# Altium footprint library 19C2830103-JOB.PcbLib: 69 footprints (part 1 of 6)
Each footprint in its own frame and in the unit in brackets; x right, y up, seen from the top. Pads: shape width x height; smd on the part's side, far side on the other; paste and mask are expansions set on the pad; w line width, h text height; cw(c..) or ccw(c..) is an arc to the next point about the centre after c.
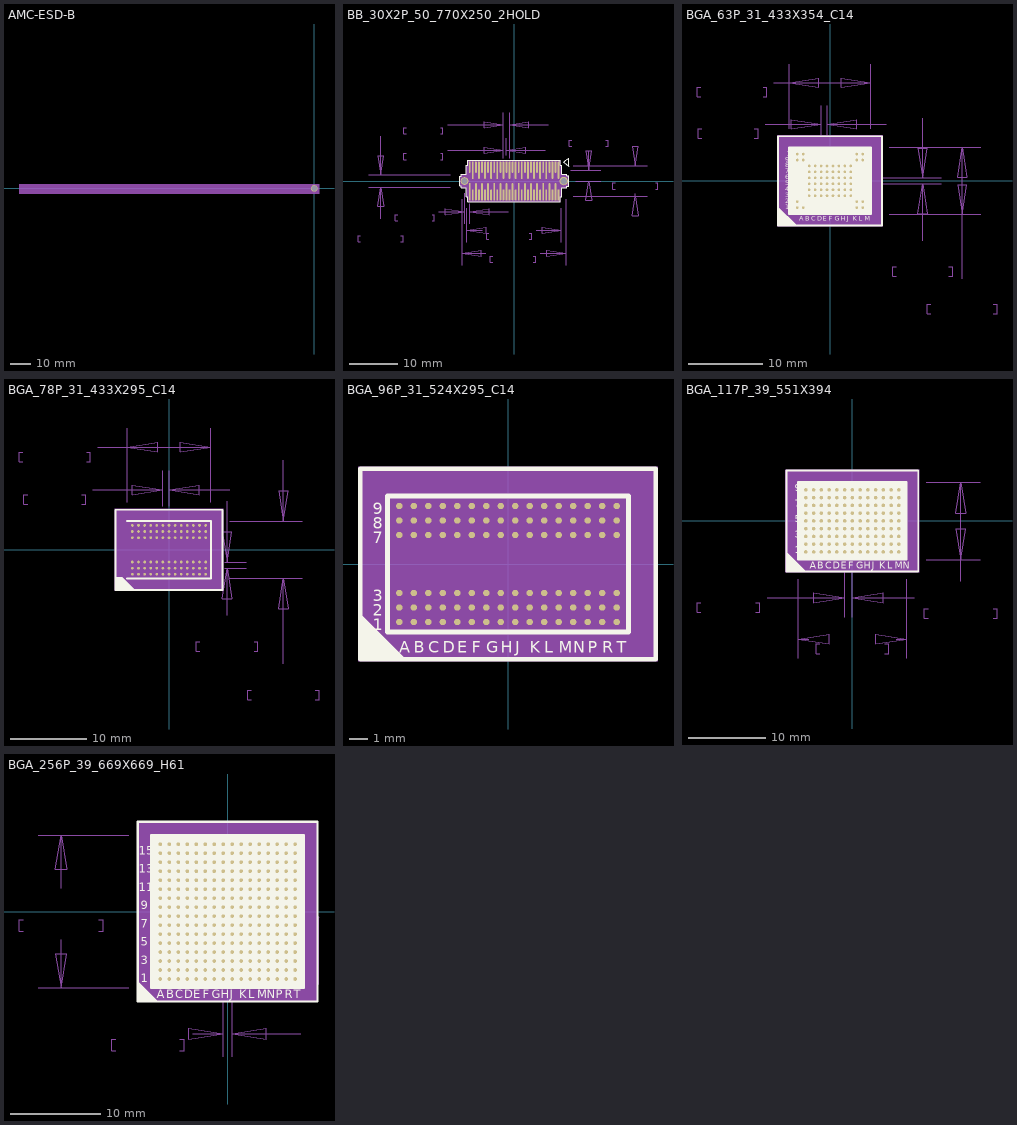
[diagram p0: the footprints below, top view; thin cyan lines are the x and y axes]

## AMC-ESD-B [mil] "AMC-ESD-B"
pads (4):
  oct 1x1 smd far side: 1(0,-11.81) 2(-4940.94,61.02) 3(-5452.76,61.02)
  round 126 hole 106: 4(0,0)
Mechanical 15:
  text "4" at -30,0 h25
  text "1" at -30,-11.81 h25
  text "2" at -4970.94,61.02 h25
  text "3" at -5482.76,61.02 h25
Mechanical 16:
  region: -5649.61,-104.33 92.03,-104.33 92.03,80.71 -5649.61,80.71
3D body: height 150, standoff 0, extent -5649.61,-104.33 92.03,80.71

## BB_30X2P_50_770X250_2HOLD [mil] "BB_30X2P_50_770X250_2HOLD"
pads (62):
  oval 15x93 smd: A1(337.6,113.58) A2(287.6,113.58) A3(237.6,113.58) A4(187.6,113.58) A5(137.6,113.58) A6(87.6,113.58) A7(37.6,113.58) A8(-12.4,113.58) A9(-62.4,113.58) A10(-112.4,113.58) A11(-162.4,113.58) A12(-212.4,113.58) A13(-262.4,113.58) A14(-312.4,113.58) A15(-362.4,113.58) D1(362.6,-113.58) D2(312.6,-113.58) D3(262.6,-113.58) D4(212.6,-113.58) D5(162.6,-113.58) D6(112.6,-113.58) D7(62.6,-113.58) D8(12.6,-113.58) D9(-37.4,-113.58) D10(-87.4,-113.58) D11(-137.4,-113.58) D12(-187.4,-113.58) D13(-237.4,-113.58) D14(-287.4,-113.58) D15(-337.4,-113.58)
  oval 15x143 smd: B1(362.6,88.58) B2(312.6,88.58) B3(262.6,88.58) B4(212.6,88.58) B5(162.6,88.58) B6(112.6,88.58) B7(62.6,88.58) B8(12.6,88.58) B9(-37.4,88.58) B10(-87.4,88.58) B11(-137.4,88.58) B12(-187.4,88.58) B13(-237.4,88.58) B14(-287.4,88.58) B15(-337.4,88.58) C1(337.6,-88.58) C2(287.6,-88.58) C3(237.6,-88.58) C4(187.6,-88.58) C5(137.6,-88.58) C6(87.6,-88.58) C7(37.6,-88.58) C8(-12.4,-88.58) C9(-62.4,-88.58) C10(-112.4,-88.58) C11(-162.4,-88.58) C12(-212.4,-88.58) C13(-262.4,-88.58) C14(-312.4,-88.58) C15(-362.4,-88.58)
  round 63 / inner round 59 / far side round 63 hole 47: H1(-404.92,0)
  round 69 / inner round 65 / far side round 69 hole 53: H2(404.92,0)
Top Overlay:
  lines w10: 408,151 404,154 ; 408.54,157.3 404,154 ; 404,154 422,168 446,186 446,124 446,120 404,154 ; -444.42,-39.5 -430,-39.5 -430,-55 -390.04,-55 -390.04,-130 -378.1,-130 -378.1,-168.08 377.9,-168.08 377.9,-130 390.04,-130 390.04,-55 430,-55 430,-42.5 447.42,-42.5 447.42,42.5 430,42.5 430,55 390.04,55 390.04,130 377.9,130 377.9,168.08 -378.1,168.08 -378.1,130 -390.04,130 -390.04,55 -430,55 -430,39.5 -444.42,39.5 -444.42,-39.5
  text ".Designator" at -457,-82.4 h36
Mechanical 15:
  text "B12" at -187.4,122.18 h28
  text "A15" at -362.4,147.18 h28
  text "A8" at -12.4,135.98 h28
  text "A4" at 187.6,135.98 h28
  text "D4" at 212.6,-91.18 h28
  text "A2" at 287.6,135.98 h28
  text "D2" at 312.6,-91.18 h28
  text "A5" at 137.6,135.98 h28
  text "D5" at 162.6,-91.18 h28
  text "A6" at 87.6,135.98 h28
  text "D6" at 112.6,-91.18 h28
  text "A7" at 37.6,135.98 h28
  text "D7" at 62.6,-91.18 h28
  text "A9" at -62.4,135.98 h28
  text "D9" at -37.4,-91.18 h28
  text "A13" at -262.4,147.18 h28
  text "D13" at -237.4,-79.98 h28
  text "A11" at -162.4,147.18 h28
  text "D11" at -137.4,-79.98 h28
  text "D14" at -287.4,-79.98 h28
  text "A14" at -312.4,147.18 h28
  text "C15" at -362.4,-54.98 h28
  text "D12" at -187.4,-79.98 h28
  text "A12" at -212.4,147.18 h28
  text "D3" at 262.6,-91.18 h28
  text "A3" at 237.6,135.98 h28
  text "C1" at 337.6,-66.18 h28
  text "B1" at 362.6,110.98 h28
  text "D10" at -87.4,-79.98 h28
  text "A10" at -112.4,147.18 h28
  text "D8" at 12.6,-91.18 h28
  text "B15" at -337.4,122.18 h28
  text "D15" at -337.4,-79.98 h28
  text "A1" at 337.6,135.98 h28
  text "B8" at 12.6,110.98 h28
  text "C3" at 237.6,-66.18 h28
  text "B2" at 312.6,110.98 h28
  text "B7" at 62.6,110.98 h28
  text "B4" at 212.6,110.98 h28
  text "C8" at -12.4,-66.18 h28
  text "C2" at 287.6,-66.18 h28
  text "B3" at 262.6,110.98 h28
  text "C4" at 187.6,-66.18 h28
  text "C5" at 137.6,-66.18 h28
  text "B5" at 162.6,110.98 h28
  text "C6" at 87.6,-66.18 h28
  text "B6" at 112.6,110.98 h28
  text "C7" at 37.6,-66.18 h28
  text "C9" at -62.4,-66.18 h28
  text "B9" at -37.4,110.98 h28
  text "C10" at -112.4,-54.98 h28
  text "B10" at -87.4,122.18 h28
  text "C11" at -162.4,-54.98 h28
  text "B11" at -137.4,122.18 h28
  text "C12" at -212.4,-54.98 h28
  text "C13" at -262.4,-54.98 h28
  text "B13" at -237.4,122.18 h28
  text "C14" at -312.4,-54.98 h28
  text "B14" at -287.4,122.18 h28
  text "H1" at -404.92,22.4 h28
  text "H2" at 404.92,22.4 h28
  text "D1" at 362.6,-91.18 h28
Mechanical 16:
  drawing of 145 lines, arcs and shapes, not listed
Mechanical 17:
  text "2.25" at 514.5,385 h36
  text "88.58" at 489,285 h36
  text "1.08" at -905.5,-225 h36
  text "42.52" at -931,-325 h36
  text "0.635" at -861,275 h36
  text "25.00" at -861,175 h36
  text "1.27" at -835.5,485 h36
  text "50.00" at -861,385 h36
  text "19.56" at -161,-375 h36
  text "770.08" at -186.5,-475 h36
  text "6.35" at 894.5,35 h36
  text "250.00" at 843.5,-65 h36
  text "21.59" at -131,-565 h36
  text "850.00" at -156.5,-665 h36
  text "2.54" at -1185.5,-395 h36
  text "100.00" at -1236.5,-495 h36
3D body: height 150, standoff 0, extent -425,-125 425,125

## BGA_63P_31_433X354_C14 [mil] "BGA_63P_31_433X354_C14"
pads (63):
  round 14 smd: A1(-173.23,-141.73) A2(-173.23,-110.24) A9(-173.23,110.24) A10(-173.23,141.73) B1(-141.73,-141.73) B9(-141.73,110.24) B10(-141.73,141.73) C3(-110.24,-78.74) C4(-110.24,-47.24) C5(-110.24,-15.75) C6(-110.24,15.75) C7(-110.24,47.24) C8(-110.24,78.74) D3(-78.74,-78.74) D4(-78.74,-47.24) D5(-78.74,-15.75) D6(-78.74,15.75) D7(-78.74,47.24) D8(-78.74,78.74) E3(-47.24,-78.74) E4(-47.24,-47.24) E5(-47.24,-15.75) E6(-47.24,15.75) E7(-47.24,47.24) E8(-47.24,78.74) F3(-15.75,-78.74) F4(-15.75,-47.24) F5(-15.75,-15.75) F6(-15.75,15.75) F7(-15.75,47.24) F8(-15.75,78.74) G3(15.75,-78.74) G4(15.75,-47.24) G5(15.75,-15.75) G6(15.75,15.75) G7(15.75,47.24) G8(15.75,78.74) H3(47.24,-78.74) H4(47.24,-47.24) H5(47.24,-15.75) H6(47.24,15.75) H7(47.24,47.24) H8(47.24,78.74) J3(78.74,-78.74) J4(78.74,-47.24) J5(78.74,-15.75) J6(78.74,15.75) J7(78.74,47.24) J8(78.74,78.74) K3(110.24,-78.74) K4(110.24,-47.24) K5(110.24,-15.75) K6(110.24,15.75) K7(110.24,47.24) K8(110.24,78.74) L1(141.73,-141.73) L2(141.73,-110.24) L9(141.73,110.24) L10(141.73,141.73) M1(173.23,-141.73) M2(173.23,-110.24) M9(173.23,110.24) M10(173.23,141.73)
Top Overlay:
  drawing of 73 lines, arcs and shapes, not listed
  text "A" at -163.23,-212.6 h25
  text "1" at -238.03,-149.61 h25
  text "B" at -131.73,-212.6 h25
  text "C" at -100.24,-212.6 h25
  text "D" at -68.74,-212.6 h25
  text "E" at -37.24,-212.6 h25
  text "F" at -5.75,-212.6 h25
  text "G" at 25.75,-212.6 h25
  text "H" at 57.24,-212.6 h25
  text "J" at 88.74,-212.6 h25
  text "K" at 120.24,-212.6 h25
  text "L" at 151.73,-212.6 h25
  text "M" at 183.23,-212.6 h25
  text "2" at -238.03,-118.11 h25
  text "3" at -238.03,-86.61 h25
  text "4" at -238.03,-55.12 h25
  text "5" at -238.03,-23.62 h25
  text "6" at -238.03,7.87 h25
  text "7" at -238.03,39.37 h25
  text "8" at -238.03,70.87 h25
  text "9" at -238.03,102.36 h25
  text "10" at -228.03,133.86 h25
  text ".Designator" at 87,-248 h36
Mechanical 1:
  lines w1: -275,-160 -275,205 -240,240 -163.71,240 -158.71,235 190,235 216.54,208.46 216.54,177.17 216.54,-177.17 -216.54,-177.17 -216.54,-175 -221.54,-170 -265,-170 -275,-160
Mechanical 15:
  text "A1" at -153.23,-141.73 h25
  text "L9" at 161.73,110.24 h25
  text "L10" at 171.73,141.73 h25
  text "M1" at 193.23,-141.73 h25
  text "M2" at 193.23,-110.24 h25
  text "M9" at 193.23,110.24 h25
  text "M10" at 203.23,141.73 h25
  text "A2" at -153.23,-110.24 h25
  text "A9" at -153.23,110.24 h25
  text "A10" at -143.23,141.73 h25
  text "B1" at -121.73,-141.73 h25
  text "B9" at -121.73,110.24 h25
  text "B10" at -111.73,141.73 h25
  text "L1" at 161.73,-141.73 h25
  text "L2" at 161.73,-110.24 h25
  text "D3" at -58.74,-78.74 h25
  text "E8" at -27.24,78.74 h25
  text "F3" at 4.25,-78.74 h25
  text "F4" at 4.25,-47.24 h25
  text "F5" at 4.25,-15.75 h25
  text "F6" at 4.25,15.75 h25
  text "F7" at 4.25,47.24 h25
  text "F8" at 4.25,78.74 h25
  text "G3" at 35.75,-78.74 h25
  text "G4" at 35.75,-47.24 h25
  text "G5" at 35.75,-15.75 h25
  text "D6" at -58.74,15.75 h25
  text "G6" at 35.75,15.75 h25
  text "G7" at 35.75,47.24 h25
  text "G8" at 35.75,78.74 h25
  text "H3" at 67.24,-78.74 h25
  text "H5" at 67.24,-15.75 h25
  text "H6" at 67.24,15.75 h25
  text "H7" at 67.24,47.24 h25
  text "J3" at 98.74,-78.74 h25
  text "J5" at 98.74,-15.75 h25
  text "D7" at -58.74,47.24 h25
  text "D8" at -58.74,78.74 h25
  text "E3" at -27.24,-78.74 h25
  text "E4" at -27.24,-47.24 h25
  text "E5" at -27.24,-15.75 h25
  text "E6" at -27.24,15.75 h25
  text "E7" at -27.24,47.24 h25
  text "H8" at 67.24,78.74 h25
  text "J6" at 98.74,15.75 h25
  text "C3" at -90.24,-78.74 h25
  text "K8" at 130.24,78.74 h25
  text "K3" at 130.24,-78.74 h25
  text "C5" at -90.24,-15.75 h25
  text "C7" at -90.24,47.24 h25
  text "C8" at -90.24,78.74 h25
  text "D4" at -58.74,-47.24 h25
  text "J8" at 98.74,78.74 h25
  text "K7" at 130.24,47.24 h25
  text "J7" at 98.74,47.24 h25
  text "K6" at 130.24,15.75 h25
  text "K5" at 130.24,-15.75 h25
  text "K4" at 130.24,-47.24 h25
  text "J4" at 98.74,-47.24 h25
  text "H4" at 67.24,-47.24 h25
  text "C6" at -90.24,15.75 h25
  text "D5" at -58.74,-15.75 h25
  text "C4" at -90.24,-47.24 h25
Mechanical 16:
  pour cut-out: -280.59,-241.22 280.59,-241.22 280.59,241.22 -280.59,241.22
  region: -275.59,-236.22 275.59,-236.22 275.59,236.22 -275.59,236.22
  lines w1: -685.5,445 -704.5,445 -704.5,495 -685.5,495 ; -680,225 -699,225 -699,275 -680,275 ; -400,225 -381,225 -381,275 -400,275 ; -354.5,445 -335.5,445 -335.5,495 -354.5,495 ; -343.5,300 -47.24,300 ; -298,520 -216.54,520 ; -216.54,275.59 -216.54,618.43 ; -47.24,177.17 -47.24,398.43 ; -15.75,177.17 -15.75,398.43 ; 208.66,-15.75 588.43,-15.75 ; 208.66,15.75 588.43,15.75 ; 216.54,275.59 216.54,618.43 ; 299.21,300 -15.75,300 ; 314.96,-177.17 798.43,-177.17 ; 314.96,177.17 798.43,177.17 ; 350,-505 331,-505 331,-455 350,-455 ; 490,-317.5 490,-15.75 ; 490,330.71 490,15.75 ; 534.5,-705 515.5,-705 515.5,-655 534.5,-655 ; 630,-505 649,-505 649,-455 630,-455 ; 700,-517.5 700,-177.17 ; 865.5,-705 884.5,-705 884.5,-655 865.5,-655 ; -216.54,520 -59.06,544.61 -59.06,495.39 -216.54,520 ; -216.54,520 216.54,520 ; -47.24,300 -204.72,275.39 -204.72,324.61 -47.24,300 ; -15.75,300 141.73,324.61 141.73,275.39 -15.75,300 ; 216.54,520 59.06,495.39 59.06,544.61 216.54,520 ; 490,-15.75 514.61,-173.23 465.39,-173.23 490,-15.75 ; 490,15.75 465.39,173.23 514.61,173.23 490,15.75 ; 700,-177.17 675.39,-19.69 724.61,-19.69 700,-177.17 ; 700,-177.17 700,177.17 ; 700,177.17 724.61,19.69 675.39,19.69 700,177.17 ; -275.59,-236.22 275.59,-236.22 275.59,236.22 -275.59,236.22 -275.59,-236.22
Mechanical 17:
  text "0.8" at -610,325 h50
  text "31.50" at -661,225 h50
  text "11" at -564.5,545 h50
  text "433.07" at -666.5,445 h50
  text "0.8" at 420,-405 h50
  text "31.50" at 369,-505 h50
  text "9" at 681,-605 h50
  text "354.33" at 553.5,-705 h50
3D body: height 150, standoff 0, extent -275.59,-236.22 275.59,236.22

## BGA_78P_31_433X295_C14 [mil] "BGA_78P_31_433X295_C14"
pads (78):
  round 14 smd: A1(-188.98,-125.98) A2(-188.98,-94.49) A3(-188.98,-62.99) A7(-188.98,62.99) A8(-188.98,94.49) A9(-188.98,125.98) B1(-157.48,-125.98) B2(-157.48,-94.49) B3(-157.48,-62.99) B7(-157.48,62.99) B8(-157.48,94.49) B9(-157.48,125.98) C1(-125.98,-125.98) C2(-125.98,-94.49) C3(-125.98,-62.99) C7(-125.98,62.99) C8(-125.98,94.49) C9(-125.98,125.98) D1(-94.49,-125.98) D2(-94.49,-94.49) D3(-94.49,-62.99) D7(-94.49,62.99) D8(-94.49,94.49) D9(-94.49,125.98) E1(-62.99,-125.98) E2(-62.99,-94.49) E3(-62.99,-62.99) E7(-62.99,62.99) E8(-62.99,94.49) E9(-62.99,125.98) F1(-31.5,-125.98) F2(-31.5,-94.49) F3(-31.5,-62.99) F7(-31.5,62.99) F8(-31.5,94.49) F9(-31.5,125.98) G1(0,-125.98) G2(0,-94.49) G3(0,-62.99) G7(0,62.99) G8(0,94.49) G9(0,125.98) H1(31.5,-125.98) H2(31.5,-94.49) H3(31.5,-62.99) H7(31.5,62.99) H8(31.5,94.49) H9(31.5,125.98) J1(62.99,-125.98) J2(62.99,-94.49) J3(62.99,-62.99) J7(62.99,62.99) J8(62.99,94.49) J9(62.99,125.98) K1(94.49,-125.98) K2(94.49,-94.49) K3(94.49,-62.99) K7(94.49,62.99) K8(94.49,94.49) K9(94.49,125.98) L1(125.98,-125.98) L2(125.98,-94.49) L3(125.98,-62.99) L7(125.98,62.99) L8(125.98,94.49) L9(125.98,125.98) M1(157.48,-125.98) M2(157.48,-94.49) M3(157.48,-62.99) M7(157.48,62.99) M8(157.48,94.49) M9(157.48,125.98) N1(188.98,-125.98) N2(188.98,-94.49) N3(188.98,-62.99) N7(188.98,62.99) N8(188.98,94.49) N9(188.98,125.98)
Top Overlay:
  pour cut-out: -275.59,-206.69 -177.17,-206.69 -241.05,-142.8 -275.59,-142.8
  lines w10: -216.54,-147.64 216.54,-147.64 216.54,147.64 -216.54,147.64 ; -275.59,-206.69 -275.59,206.69 275.59,206.69 275.59,-206.69 -275.59,-206.69
  text ".Designator" at -394.25,81.4 h36
Mechanical 15:
  text "A3" at -188.98,-82.99 h25
  text "F1" at -31.5,-145.98 h25
  text "F9" at -31.5,105.98 h25
  text "H1" at 31.5,-145.98 h25
  text "H9" at 31.5,105.98 h25
  text "K3" at 94.49,-82.99 h25
  text "L7" at 125.98,42.99 h25
  text "H7" at 31.5,42.99 h25
  text "M7" at 157.48,42.99 h25
  text "K7" at 94.49,42.99 h25
  text "N3" at 188.98,-82.99 h25
  text "N7" at 188.98,42.99 h25
  text "J7" at 62.99,42.99 h25
  text "L3" at 125.98,-82.99 h25
  text "K2" at 94.49,-114.49 h25
  text "L8" at 125.98,74.49 h25
  text "L2" at 125.98,-114.49 h25
  text "M8" at 157.48,74.49 h25
  text "M2" at 157.48,-114.49 h25
  text "N8" at 188.98,74.49 h25
  text "M3" at 157.48,-82.99 h25
  text "J2" at 62.99,-114.49 h25
  text "K8" at 94.49,74.49 h25
  text "J3" at 62.99,-82.99 h25
  text "G3" at 0,-82.99 h25
  text "B3" at -157.48,-82.99 h25
  text "C7" at -125.98,42.99 h25
  text "C2" at -125.98,-114.49 h25
  text "C8" at -125.98,74.49 h25
  text "E3" at -62.99,-82.99 h25
  text "E8" at -62.99,74.49 h25
  text "D2" at -94.49,-114.49 h25
  text "E7" at -62.99,42.99 h25
  text "G9" at 0,105.98 h25
  text "G7" at 0,42.99 h25
  text "F7" at -31.5,42.99 h25
  text "H2" at 31.5,-114.49 h25
  text "B7" at -157.48,42.99 h25
  text "D3" at -94.49,-82.99 h25
  text "C3" at -125.98,-82.99 h25
  text "N2" at 188.98,-114.49 h25
  text "G1" at 0,-145.98 h25
  text "F3" at -31.5,-82.99 h25
  text "H3" at 31.5,-82.99 h25
  text "J8" at 62.99,74.49 h25
  text "E1" at -62.99,-145.98 h25
  text "N9" at 188.98,105.98 h25
  text "D9" at -94.49,105.98 h25
  text "D8" at -94.49,74.49 h25
  text "F8" at -31.5,74.49 h25
  text "J9" at 62.99,105.98 h25
  text "L9" at 125.98,105.98 h25
  text "A8" at -188.98,74.49 h25
  text "D1" at -94.49,-145.98 h25
  text "L1" at 125.98,-145.98 h25
  text "J1" at 62.99,-145.98 h25
  text "F2" at -31.5,-114.49 h25
  text "A1" at -188.98,-145.98 h25
  text "B1" at -157.48,-145.98 h25
  text "N1" at 188.98,-145.98 h25
  text "B2" at -157.48,-114.49 h25
  text "B8" at -157.48,74.49 h25
  text "C9" at -125.98,105.98 h25
  text "G8" at 0,74.49 h25
  text "A9" at -188.98,105.98 h25
  text "M9" at 157.48,105.98 h25
  text "K9" at 94.49,105.98 h25
  text "D7" at -94.49,42.99 h25
  text "A2" at -188.98,-114.49 h25
  text "C1" at -125.98,-145.98 h25
  text "K1" at 94.49,-145.98 h25
  text "M1" at 157.48,-145.98 h25
  text "E2" at -62.99,-114.49 h25
  text "G2" at 0,-114.49 h25
  text "B9" at -157.48,105.98 h25
  text "E9" at -62.99,105.98 h25
  text "H8" at 31.5,74.49 h25
  text "A7" at -188.98,42.99 h25
Mechanical 16:
  region: -275.59,-206.69 275.59,-206.69 275.59,206.69 -275.59,206.69
  pour cut-out: -280.59,-211.69 280.59,-211.69 280.59,211.69 -280.59,211.69
  lines w1: -755.5,455 -774.5,455 -774.5,505 -755.5,505 ; -730,235 -749,235 -749,285 -730,285 ; -450,235 -431,235 -431,285 -450,285 ; -424.5,455 -405.5,455 -405.5,505 -424.5,505 ; -393.5,310 -31.5,310 ; -368,530 -216.54,530 ; -216.54,246.06 -216.54,628.43 ; -31.5,224.41 -31.5,408.43 ; 0,224.41 0,408.43 ; 160,-525 141,-525 141,-475 160,-475 ; 216.54,246.06 216.54,628.43 ; 287.4,-94.49 398.43,-94.49 ; 287.4,-62.99 398.43,-62.99 ; 300,-337.5 300,-94.49 ; 300,251.97 300,-62.99 ; 314.96,-147.64 688.43,-147.64 ; 314.96,147.64 688.43,147.64 ; 314.96,310 0,310 ; 424.5,-775 405.5,-775 405.5,-725 424.5,-725 ; 440,-525 459,-525 459,-475 440,-475 ; 590,-587.5 590,-147.64 ; 590,462.6 590,147.64 ; 755.5,-775 774.5,-775 774.5,-725 755.5,-725 ; -216.54,530 216.54,530 ; -216.54,530 -59.06,505.39 -59.06,554.61 -216.54,530 ; -31.5,310 -188.98,334.61 -188.98,285.39 -31.5,310 ; 0,310 157.48,285.39 157.48,334.61 0,310 ; 216.54,530 59.06,554.61 59.06,505.39 216.54,530 ; 300,-94.49 275.39,-251.97 324.61,-251.97 300,-94.49 ; 300,-62.99 324.61,94.49 275.39,94.49 300,-62.99 ; 590,-147.64 565.39,-305.12 614.61,-305.12 590,-147.64 ; 590,147.64 614.61,305.12 565.39,305.12 590,147.64 ; -275.59,-206.69 -275.59,206.69 275.59,206.69 275.59,-206.69 -275.59,-206.69
Mechanical 17:
  text "295.28" at 443.5,-775 h50
  text "7.5" at 520,-675 h50
  text "31.50" at 179,-525 h50
  text "0.8" at 230,-425 h50
  text "433.07" at -736.5,455 h50
  text "11" at -634.5,555 h50
  text "31.50" at -711,235 h50
  text "0.8" at -660,335 h50
3D body: height 150, standoff 0, extent -275.59,-206.69 275.59,206.69

## BGA_96P_31_524X295_C14 [mil] "BGA_96P_31_524X295_C14"
pads (96):
  round 14 smd: A1(-236.22,-125.98) A2(-236.22,-94.49) A3(-236.22,-62.99) A7(-236.22,62.99) A8(-236.22,94.49) A9(-236.22,125.98) B1(-204.72,-125.98) B2(-204.72,-94.49) B3(-204.72,-62.99) B7(-204.72,62.99) B8(-204.72,94.49) B9(-204.72,125.98) C1(-173.23,-125.98) C2(-173.23,-94.49) C3(-173.23,-62.99) C7(-173.23,62.99) C8(-173.23,94.49) C9(-173.23,125.98) D1(-141.73,-125.98) D2(-141.73,-94.49) D3(-141.73,-62.99) D7(-141.73,62.99) D8(-141.73,94.49) D9(-141.73,125.98) E1(-110.24,-125.98) E2(-110.24,-94.49) E3(-110.24,-62.99) E7(-110.24,62.99) E8(-110.24,94.49) E9(-110.24,125.98) F1(-78.74,-125.98) F2(-78.74,-94.49) F3(-78.74,-62.99) F7(-78.74,62.99) F8(-78.74,94.49) F9(-78.74,125.98) G1(-47.24,-125.98) G2(-47.24,-94.49) G3(-47.24,-62.99) G7(-47.24,62.99) G8(-47.24,94.49) G9(-47.24,125.98) H1(-15.75,-125.98) H2(-15.75,-94.49) H3(-15.75,-62.99) H7(-15.75,62.99) H8(-15.75,94.49) H9(-15.75,125.98) J1(15.75,-125.98) J2(15.75,-94.49) J3(15.75,-62.99) J7(15.75,62.99) J8(15.75,94.49) J9(15.75,125.98) K1(47.24,-125.98) K2(47.24,-94.49) K3(47.24,-62.99) K7(47.24,62.99) K8(47.24,94.49) K9(47.24,125.98) L1(78.74,-125.98) L2(78.74,-94.49) L3(78.74,-62.99) L7(78.74,62.99) L8(78.74,94.49) L9(78.74,125.98) M1(110.24,-125.98) M2(110.24,-94.49) M3(110.24,-62.99) M7(110.24,62.99) M8(110.24,94.49) M9(110.24,125.98) N1(141.73,-125.98) N2(141.73,-94.49) N3(141.73,-62.99) N7(141.73,62.99) N8(141.73,94.49) N9(141.73,125.98) P1(173.23,-125.98) P2(173.23,-94.49) P3(173.23,-62.99) P7(173.23,62.99) P8(173.23,94.49) P9(173.23,125.98) R1(204.72,-125.98) R2(204.72,-94.49) R3(204.72,-62.99) R7(204.72,62.99) R8(204.72,94.49) R9(204.72,125.98) T1(236.22,-125.98) T2(236.22,-94.49) T3(236.22,-62.99) T7(236.22,62.99) T8(236.22,94.49) T9(236.22,125.98)
Top Overlay:
  pour cut-out: -320.87,-206.69 -222.44,-206.69 -320.87,-108.27
  lines w10: -320.87,-206.69 320.87,-206.69 320.87,206.69 -320.87,206.69 -320.87,-206.69 ; -261.81,-147.64 261.81,-147.64 261.81,147.64 -261.81,147.64 -261.81,-147.64
  text "A" at -236.22,-193.07 h25
  text "1" at -293.31,-143.86 h25
  text "B" at -204.72,-193.07 h25
  text "C" at -173.23,-193.07 h25
  text "D" at -141.73,-193.07 h25
  text "E" at -110.24,-193.07 h25
  text "F" at -78.74,-193.07 h25
  text "G" at -47.24,-193.07 h25
  text "H" at -15.75,-193.07 h25
  text "J" at 15.75,-193.07 h25
  text "K" at 47.24,-193.07 h25
  text "L" at 78.74,-193.07 h25
  text "M" at 110.24,-193.07 h25
  text "N" at 141.73,-193.07 h25
  text "P" at 173.23,-193.07 h25
  text "R" at 204.72,-193.07 h25
  text "T" at 236.22,-193.07 h25
  text "2" at -293.31,-112.36 h25
  text "3" at -293.31,-80.87 h25
  text "7" at -293.31,45.12 h25
  text "8" at -293.31,76.61 h25
  text "9" at -293.31,108.11 h25
Mechanical 1:
  lines w1: -261.81,-147.64 261.81,-147.64 261.81,147.64 -261.81,147.64 -261.81,-147.64
Mechanical 15:
  text "B2" at -204.72,-114.49 h25
  text "C1" at -173.23,-145.98 h25
  text "A8" at -236.22,74.49 h25
  text "A1" at -236.22,-145.98 h25
  text "R9" at 204.72,105.98 h25
  text "R1" at 204.72,-145.98 h25
  text "N9" at 141.73,105.98 h25
  text "N1" at 141.73,-145.98 h25
  text "K8" at 47.24,74.49 h25
  text "K2" at 47.24,-114.49 h25
  text "G7" at -47.24,42.99 h25
  text "D9" at -141.73,105.98 h25
  text "C9" at -173.23,105.98 h25
  text "H2" at -15.75,-114.49 h25
  text "F1" at -78.74,-145.98 h25
  text "E9" at -110.24,105.98 h25
  text "D2" at -141.73,-114.49 h25
  text "H9" at -15.75,105.98 h25
  text "L8" at 78.74,74.49 h25
  text "G1" at -47.24,-145.98 h25
  text "F9" at -78.74,105.98 h25
  text "E8" at -110.24,74.49 h25
  text "E2" at -110.24,-114.49 h25
  text "D8" at -141.73,74.49 h25
  text "D1" at -141.73,-145.98 h25
  text "B9" at -204.72,105.98 h25
  text "B1" at -204.72,-145.98 h25
  text "T9" at 236.22,105.98 h25
  text "T1" at 236.22,-145.98 h25
  text "P9" at 173.23,105.98 h25
  text "P1" at 173.23,-145.98 h25
  text "M9" at 110.24,105.98 h25
  text "M1" at 110.24,-145.98 h25
  text "J8" at 15.75,74.49 h25
  text "G9" at -47.24,105.98 h25
  text "J2" at 15.75,-114.49 h25
  text "G8" at -47.24,74.49 h25
  text "E1" at -110.24,-145.98 h25
  text "B3" at -204.72,-82.99 h25
  text "A9" at -236.22,105.98 h25
  text "H1" at -15.75,-145.98 h25
  text "M8" at 110.24,74.49 h25
  text "L3" at 78.74,-82.99 h25
  text "J3" at 15.75,-82.99 h25
  text "K1" at 47.24,-145.98 h25
  text "T2" at 236.22,-114.49 h25
  text "C7" at -173.23,42.99 h25
  text "F3" at -78.74,-82.99 h25
  text "B7" at -204.72,42.99 h25
  text "G3" at -47.24,-82.99 h25
  text "A3" at -236.22,-82.99 h25
  text "B8" at -204.72,74.49 h25
  text "A2" at -236.22,-114.49 h25
  text "A7" at -236.22,42.99 h25
  text "C2" at -173.23,-114.49 h25
  text "C8" at -173.23,74.49 h25
  text "C3" at -173.23,-82.99 h25
  text "D7" at -141.73,42.99 h25
  text "H7" at -15.75,42.99 h25
  text "G2" at -47.24,-114.49 h25
  text "H8" at -15.75,74.49 h25
  text "H3" at -15.75,-82.99 h25
  text "F8" at -78.74,74.49 h25
  text "F2" at -78.74,-114.49 h25
  text "F7" at -78.74,42.99 h25
  text "E3" at -110.24,-82.99 h25
  text "D3" at -141.73,-82.99 h25
  text "E7" at -110.24,42.99 h25
  text "L2" at 78.74,-114.49 h25
  text "J7" at 15.75,42.99 h25
  text "K7" at 47.24,42.99 h25
  text "K9" at 47.24,105.98 h25
  text "K3" at 47.24,-82.99 h25
  text "M3" at 110.24,-82.99 h25
  text "N8" at 141.73,74.49 h25
  text "M2" at 110.24,-114.49 h25
  text "R3" at 204.72,-82.99 h25
  text "T8" at 236.22,74.49 h25
  text "R2" at 204.72,-114.49 h25
  text "R8" at 204.72,74.49 h25
  text "P2" at 173.23,-114.49 h25
  text "P8" at 173.23,74.49 h25
  text "N2" at 141.73,-114.49 h25
  text "P3" at 173.23,-82.99 h25
  text "M7" at 110.24,42.99 h25
  text "T7" at 236.22,42.99 h25
  text "T3" at 236.22,-82.99 h25
  text "N7" at 141.73,42.99 h25
  text "R7" at 204.72,42.99 h25
  text "L7" at 78.74,42.99 h25
  text "P7" at 173.23,42.99 h25
  text "N3" at 141.73,-82.99 h25
  text "L9" at 78.74,105.98 h25
  text "L1" at 78.74,-145.98 h25
  text "J9" at 15.75,105.98 h25
  text "J1" at 15.75,-145.98 h25
Mechanical 16:
  pour cut-out: -325.87,-211.69 325.87,-211.69 325.87,211.69 -325.87,211.69
  region: -320.87,-206.69 320.87,-206.69 320.87,206.69 -320.87,206.69
  lines w1: -320.87,-206.69 320.87,-206.69 320.87,206.69 -320.87,206.69 -320.87,-206.69
3D body: height 150, standoff 0, extent -320.87,-206.69 320.87,206.69

## BGA_117P_39_551X394 [mil] "BGA_117P_39_551X394"
pads (117):
  round 18 smd: A1(-236.22,-157.48) A2(-236.22,-118.11) A3(-236.22,-78.74) A4(-236.22,-39.37) A5(-236.22,0) A6(-236.22,39.37) A7(-236.22,78.74) A8(-236.22,118.11) A9(-236.22,157.48) B1(-196.85,-157.48) B2(-196.85,-118.11) B3(-196.85,-78.74) B4(-196.85,-39.37) B5(-196.85,0) B6(-196.85,39.37) B7(-196.85,78.74) B8(-196.85,118.11) B9(-196.85,157.48) C1(-157.48,-157.48) C2(-157.48,-118.11) C3(-157.48,-78.74) C4(-157.48,-39.37) C5(-157.48,0) C6(-157.48,39.37) C7(-157.48,78.74) C8(-157.48,118.11) C9(-157.48,157.48) D1(-118.11,-157.48) D2(-118.11,-118.11) D3(-118.11,-78.74) D4(-118.11,-39.37) D5(-118.11,0) D6(-118.11,39.37) D7(-118.11,78.74) D8(-118.11,118.11) D9(-118.11,157.48) E1(-78.74,-157.48) E2(-78.74,-118.11) E3(-78.74,-78.74) E4(-78.74,-39.37) E5(-78.74,0) E6(-78.74,39.37) E7(-78.74,78.74) E8(-78.74,118.11) E9(-78.74,157.48) F1(-39.37,-157.48) F2(-39.37,-118.11) F3(-39.37,-78.74) F4(-39.37,-39.37) F5(-39.37,0) F6(-39.37,39.37) F7(-39.37,78.74) F8(-39.37,118.11) F9(-39.37,157.48) G1(0,-157.48) G2(0,-118.11) G3(0,-78.74) G4(0,-39.37) G5(0,0) G6(0,39.37) G7(0,78.74) G8(0,118.11) G9(0,157.48) H1(39.37,-157.48) H2(39.37,-118.11) H3(39.37,-78.74) H4(39.37,-39.37) H5(39.37,0) H6(39.37,39.37) H7(39.37,78.74) H8(39.37,118.11) H9(39.37,157.48) J1(78.74,-157.48) J2(78.74,-118.11) J3(78.74,-78.74) J4(78.74,-39.37) J5(78.74,0) J6(78.74,39.37) J7(78.74,78.74) J8(78.74,118.11) J9(78.74,157.48) K1(118.11,-157.48) K2(118.11,-118.11) K3(118.11,-78.74) K4(118.11,-39.37) K5(118.11,0) K6(118.11,39.37) K7(118.11,78.74) K8(118.11,118.11) K9(118.11,157.48) L1(157.48,-157.48) L2(157.48,-118.11) L3(157.48,-78.74) L4(157.48,-39.37) L5(157.48,0) L6(157.48,39.37) L7(157.48,78.74) L8(157.48,118.11) L9(157.48,157.48) M1(196.85,-157.48) M2(196.85,-118.11) M3(196.85,-78.74) M4(196.85,-39.37) M5(196.85,0) M6(196.85,39.37) M7(196.85,78.74) M8(196.85,118.11) M9(196.85,157.48) N1(236.22,-157.48) N2(236.22,-118.11) N3(236.22,-78.74) N4(236.22,-39.37) N5(236.22,0) N6(236.22,39.37) N7(236.22,78.74) N8(236.22,118.11) N9(236.22,157.48)
Top Overlay:
  drawing of 127 lines, arcs and shapes, not listed
  text "A" at -216.82,-242.28 h36
  text "1" at -292.69,-165.35 h36
  text "B" at -177.45,-242.28 h36
  text "C" at -138.08,-242.28 h36
  text "D" at -98.71,-242.28 h36
  text "E" at -59.34,-242.28 h36
  text "F" at -19.97,-242.28 h36
  text "G" at 19.4,-242.28 h36
  text "H" at 58.77,-242.28 h36
  text "J" at 98.14,-242.28 h36
  text "K" at 137.51,-242.28 h36
  text "L" at 176.88,-242.28 h36
  text "M" at 216.25,-242.28 h36
  text "N" at 255.62,-242.28 h36
  text "3" at -292.69,-86.61 h36
  text "5" at -292.69,-7.87 h36
  text "7" at -292.69,70.87 h36
  text "9" at -292.69,149.61 h36
Mechanical 1:
  lines w1: -275.59,-196.85 -275.59,196.85 275.59,196.85 275.59,-196.85 -275.59,-196.85
Mechanical 15:
  text "K7" at 140.51,78.74 h28
  text "M6" at 219.25,39.37 h28
  text "M5" at 219.25,0 h28
  text "G1" at 22.4,-157.48 h28
  text "C5" at -135.08,0 h28
  text "B5" at -174.45,0 h28
  text "C4" at -135.08,-39.37 h28
  text "D3" at -95.71,-78.74 h28
  text "C3" at -135.08,-78.74 h28
  text "B3" at -174.45,-78.74 h28
  text "D2" at -95.71,-118.11 h28
  text "B2" at -174.45,-118.11 h28
  text "A2" at -213.82,-118.11 h28
  text "C1" at -135.08,-157.48 h28
  text "B1" at -174.45,-157.48 h28
  text "A1" at -213.82,-157.48 h28
  text "B7" at -174.45,78.74 h28
  text "N5" at 258.62,0 h28
  text "M8" at 219.25,118.11 h28
  text "M7" at 219.25,78.74 h28
  text "M4" at 219.25,-39.37 h28
  text "M3" at 219.25,-78.74 h28
  text "L3" at 179.88,-78.74 h28
  text "M1" at 219.25,-157.48 h28
  text "A8" at -213.82,118.11 h28
  text "A7" at -213.82,78.74 h28
  text "A4" at -213.82,-39.37 h28
  text "A3" at -213.82,-78.74 h28
  text "D4" at -95.71,-39.37 h28
  text "D5" at -95.71,0 h28
  text "D6" at -95.71,39.37 h28
  text "G5" at 22.4,0 h28
  text "H4" at 61.77,-39.37 h28
  text "G4" at 22.4,-39.37 h28
  text "F4" at -16.97,-39.37 h28
  text "F5" at -16.97,0 h28
  text "J5" at 101.14,0 h28
  text "J4" at 101.14,-39.37 h28
  text "L5" at 179.88,0 h28
  text "L4" at 179.88,-39.37 h28
  text "L6" at 179.88,39.37 h28
  text "K4" at 140.51,-39.37 h28
  text "K5" at 140.51,0 h28
  text "K6" at 140.51,39.37 h28
  text "J6" at 101.14,39.37 h28
  text "H7" at 61.77,78.74 h28
  text "G6" at 22.4,39.37 h28
  text "H6" at 61.77,39.37 h28
  text "H5" at 61.77,0 h28
  text "E6" at -56.34,39.37 h28
  text "F6" at -16.97,39.37 h28
  text "E4" at -56.34,-39.37 h28
  text "E5" at -56.34,0 h28
  text "E2" at -56.34,-118.11 h28
  text "E8" at -56.34,118.11 h28
  text "C8" at -135.08,118.11 h28
  text "B8" at -174.45,118.11 h28
  text "A9" at -213.82,157.48 h28
  text "D9" at -95.71,157.48 h28
  text "N2" at 258.62,-118.11 h28
  text "N1" at 258.62,-157.48 h28
  text "N4" at 258.62,-39.37 h28
  text "N3" at 258.62,-78.74 h28
  text "N7" at 258.62,78.74 h28
  text "N6" at 258.62,39.37 h28
  text "N9" at 258.62,157.48 h28
  text "N8" at 258.62,118.11 h28
  text "K2" at 140.51,-118.11 h28
  text "H8" at 61.77,118.11 h28
  text "B6" at -174.45,39.37 h28
  text "D8" at -95.71,118.11 h28
  text "E9" at -56.34,157.48 h28
  text "F8" at -16.97,118.11 h28
  text "G7" at 22.4,78.74 h28
  text "F9" at -16.97,157.48 h28
  text "G9" at 22.4,157.48 h28
  text "G8" at 22.4,118.11 h28
  text "M2" at 219.25,-118.11 h28
  text "L1" at 179.88,-157.48 h28
  text "H9" at 61.77,157.48 h28
  text "J9" at 101.14,157.48 h28
  text "K3" at 140.51,-78.74 h28
  text "F1" at -16.97,-157.48 h28
  text "G2" at 22.4,-118.11 h28
  text "G3" at 22.4,-78.74 h28
  text "H2" at 61.77,-118.11 h28
  text "H1" at 61.77,-157.48 h28
  text "H3" at 61.77,-78.74 h28
  text "J1" at 101.14,-157.48 h28
  text "J2" at 101.14,-118.11 h28
  text "D1" at -95.71,-157.48 h28
  text "E1" at -56.34,-157.48 h28
  text "F2" at -16.97,-118.11 h28
  text "E7" at -56.34,78.74 h28
  text "D7" at -95.71,78.74 h28
  text "C6" at -135.08,39.37 h28
  text "C7" at -135.08,78.74 h28
  text "J3" at 101.14,-78.74 h28
  text "F3" at -16.97,-78.74 h28
  text "J7" at 101.14,78.74 h28
  text "E3" at -56.34,-78.74 h28
  text "K9" at 140.51,157.48 h28
  text "L2" at 179.88,-118.11 h28
  text "B9" at -174.45,157.48 h28
  text "B4" at -174.45,-39.37 h28
  text "C2" at -135.08,-118.11 h28
  text "K1" at 140.51,-157.48 h28
  text "F7" at -16.97,78.74 h28
  text "J8" at 101.14,118.11 h28
  text "A6" at -213.82,39.37 h28
  text "L8" at 179.88,118.11 h28
  text "A5" at -213.82,0 h28
  text "C9" at -135.08,157.48 h28
  text "M9" at 219.25,157.48 h28
  text "K8" at 140.51,118.11 h28
  text "L7" at 179.88,78.74 h28
  text "L9" at 179.88,157.48 h28
Mechanical 16:
  region: -334.65,-255.91 334.65,-255.91 334.65,255.91 -334.65,255.91
  pour cut-out: -339.65,-260.91 339.65,-260.91 339.65,260.91 -339.65,260.91
  lines w1: -770,-465 -789,-465 -789,-415 -770,-415 ; -490,-465 -471,-465 -471,-415 -490,-415 ; -433.5,-390 -39.37,-390 ; -275.59,-698.43 -275.59,-295.28 ; -222,-600 -275.59,-600 ; -165.5,-675 -184.5,-675 -184.5,-625 -165.5,-625 ; -39.37,-488.43 -39.37,-255.91 ; 0,-488.43 0,-255.91 ; 165.5,-675 184.5,-675 184.5,-625 165.5,-625 ; 222,-600 275.59,-600 ; 275.59,-698.43 275.59,-295.28 ; 314.96,-390 0,-390 ; 374.02,-196.85 648.43,-196.85 ; 374.02,196.85 648.43,196.85 ; 384.5,-495 365.5,-495 365.5,-445 384.5,-445 ; 550,-307.5 550,-196.85 ; 715.5,-495 734.5,-495 734.5,-445 715.5,-445 ; -275.59,-600 -118.11,-624.61 -118.11,-575.39 -275.59,-600 ; -39.37,-390 -196.85,-365.39 -196.85,-414.61 -39.37,-390 ; 0,-390 157.48,-414.61 157.48,-365.39 0,-390 ; 275.59,-600 118.11,-575.39 118.11,-624.61 275.59,-600 ; 550,-196.85 574.61,-39.37 525.39,-39.37 550,-196.85 ; 550,-196.85 550,196.85 ; 550,196.85 525.39,39.37 574.61,39.37 550,196.85 ; -334.65,-255.91 334.65,-255.91 334.65,255.91 -334.65,255.91 -334.65,-255.91
Mechanical 17:
  text "1" at -649,-365 h36
  text "39.37" at -751,-465 h36
  text "14" at -44.5,-575 h36
  text "551.18" at -146.5,-675 h36
  text "10" at 505.5,-395 h36
  text "393.70" at 403.5,-495 h36
Mechanical 21:
  text ".Designator" at 44.8,13.5 h28
3D body: height 150, standoff 0, extent -334.65,-255.91 334.65,255.91

## BGA_256P_39_669X669_H61 [mil] "BGA_256P_39_669X669_H61"
pads (256):
  round 16 smd: A1(-295.28,-295.28) A2(-295.28,-255.91) A3(-295.28,-216.54) A4(-295.28,-177.17) A5(-295.28,-137.8) A6(-295.28,-98.43) A7(-295.28,-59.06) A8(-295.28,-19.69) A9(-295.28,19.69) A10(-295.28,59.06) A11(-295.28,98.43) A12(-295.28,137.8) A13(-295.28,177.17) A14(-295.28,216.54) A15(-295.28,255.91) A16(-295.28,295.28) B1(-255.91,-295.28) B2(-255.91,-255.91) B3(-255.91,-216.54) B4(-255.91,-177.17) B5(-255.91,-137.8) B6(-255.91,-98.43) B7(-255.91,-59.06) B8(-255.91,-19.69) B9(-255.91,19.69) B10(-255.91,59.06) B11(-255.91,98.43) B12(-255.91,137.8) B13(-255.91,177.17) B14(-255.91,216.54) B15(-255.91,255.91) B16(-255.91,295.28) C1(-216.54,-295.28) C2(-216.54,-255.91) C3(-216.54,-216.54) C4(-216.54,-177.17) C5(-216.54,-137.8) C6(-216.54,-98.43) C7(-216.54,-59.06) C8(-216.54,-19.69) C9(-216.54,19.69) C10(-216.54,59.06) C11(-216.54,98.43) C12(-216.54,137.8) C13(-216.54,177.17) C14(-216.54,216.54) C15(-216.54,255.91) C16(-216.54,295.28) D1(-177.17,-295.28) D2(-177.17,-255.91) D3(-177.17,-216.54) D4(-177.17,-177.17) D5(-177.17,-137.8) D6(-177.17,-98.43) D7(-177.17,-59.06) D8(-177.17,-19.69) D9(-177.17,19.69) D10(-177.17,59.06) D11(-177.17,98.43) D12(-177.17,137.8) D13(-177.17,177.17) D14(-177.17,216.54) D15(-177.17,255.91) D16(-177.17,295.28) E1(-137.8,-295.28) E2(-137.8,-255.91) E3(-137.8,-216.54) E4(-137.8,-177.17) E5(-137.8,-137.8) E6(-137.8,-98.43) E7(-137.8,-59.06) E8(-137.8,-19.69) E9(-137.8,19.69) E10(-137.8,59.06) E11(-137.8,98.43) E12(-137.8,137.8) E13(-137.8,177.17) E14(-137.8,216.54) E15(-137.8,255.91) E16(-137.8,295.28) F1(-98.43,-295.28) F2(-98.43,-255.91) F3(-98.43,-216.54) F4(-98.43,-177.17) F5(-98.43,-137.8) F6(-98.43,-98.43) F7(-98.43,-59.06) F8(-98.43,-19.69) F9(-98.43,19.69) F10(-98.43,59.06) F11(-98.43,98.43) F12(-98.43,137.8) F13(-98.43,177.17) F14(-98.43,216.54) F15(-98.43,255.91) F16(-98.43,295.28) G1(-59.06,-295.28) G2(-59.06,-255.91) G3(-59.06,-216.54) G4(-59.06,-177.17) G5(-59.06,-137.8) G6(-59.06,-98.43) G7(-59.06,-59.06) G8(-59.06,-19.69) G9(-59.06,19.69) G10(-59.06,59.06) G11(-59.06,98.43) G12(-59.06,137.8) G13(-59.06,177.17) G14(-59.06,216.54) G15(-59.06,255.91) G16(-59.06,295.28) H1(-19.69,-295.28) H2(-19.69,-255.91) H3(-19.69,-216.54) H4(-19.69,-177.17) H5(-19.69,-137.8) H6(-19.69,-98.43) H7(-19.69,-59.06) H8(-19.69,-19.69) H9(-19.69,19.69) H10(-19.69,59.06) H11(-19.69,98.43) H12(-19.69,137.8) H13(-19.69,177.17) H14(-19.69,216.54) H15(-19.69,255.91) H16(-19.69,295.28) J1(19.69,-295.28) J2(19.69,-255.91) J3(19.69,-216.54) J4(19.69,-177.17) J5(19.69,-137.8) J6(19.69,-98.43) J7(19.69,-59.06) J8(19.69,-19.69) J9(19.69,19.69) J10(19.69,59.06) J11(19.69,98.43) J12(19.69,137.8) J13(19.69,177.17) J14(19.69,216.54) J15(19.69,255.91) J16(19.69,295.28) K1(59.06,-295.28) K2(59.06,-255.91) K3(59.06,-216.54) K4(59.06,-177.17) K5(59.06,-137.8) K6(59.06,-98.43) K7(59.06,-59.06) K8(59.06,-19.69) K9(59.06,19.69) K10(59.06,59.06) K11(59.06,98.43) K12(59.06,137.8) K13(59.06,177.17) K14(59.06,216.54) K15(59.06,255.91) K16(59.06,295.28) L1(98.43,-295.28) L2(98.43,-255.91) L3(98.43,-216.54) L4(98.43,-177.17) L5(98.43,-137.8) L6(98.43,-98.43) L7(98.43,-59.06) L8(98.43,-19.69) L9(98.43,19.69) L10(98.43,59.06) L11(98.43,98.43) L12(98.43,137.8) L13(98.43,177.17) L14(98.43,216.54) L15(98.43,255.91) L16(98.43,295.28) M1(137.8,-295.28) M2(137.8,-255.91) M3(137.8,-216.54) M4(137.8,-177.17) M5(137.8,-137.8) M6(137.8,-98.43) M7(137.8,-59.06) M8(137.8,-19.69) M9(137.8,19.69) M10(137.8,59.06) M11(137.8,98.43) M12(137.8,137.8) M13(137.8,177.17) M14(137.8,216.54) M15(137.8,255.91) M16(137.8,295.28) N1(177.17,-295.28) N2(177.17,-255.91) N3(177.17,-216.54) N4(177.17,-177.17) N5(177.17,-137.8) N6(177.17,-98.43) N7(177.17,-59.06) N8(177.17,-19.69) N9(177.17,19.69) N10(177.17,59.06) N11(177.17,98.43) N12(177.17,137.8) N13(177.17,177.17) N14(177.17,216.54) N15(177.17,255.91) N16(177.17,295.28) P1(216.54,-295.28) P2(216.54,-255.91) P3(216.54,-216.54) P4(216.54,-177.17) P5(216.54,-137.8) P6(216.54,-98.43) P7(216.54,-59.06) P8(216.54,-19.69) P9(216.54,19.69) P10(216.54,59.06) P11(216.54,98.43) P12(216.54,137.8) P13(216.54,177.17) P14(216.54,216.54) P15(216.54,255.91) P16(216.54,295.28) R1(255.91,-295.28) R2(255.91,-255.91) R3(255.91,-216.54) R4(255.91,-177.17) R5(255.91,-137.8) R6(255.91,-98.43) R7(255.91,-59.06) R8(255.91,-19.69) R9(255.91,19.69) R10(255.91,59.06) R11(255.91,98.43) R12(255.91,137.8) R13(255.91,177.17) R14(255.91,216.54) R15(255.91,255.91) R16(255.91,295.28) T1(295.28,-295.28) T2(295.28,-255.91) T3(295.28,-216.54) T4(295.28,-177.17) T5(295.28,-137.8) T6(295.28,-98.43) T7(295.28,-59.06) T8(295.28,-19.69) T9(295.28,19.69) T10(295.28,59.06) T11(295.28,98.43) T12(295.28,137.8) T13(295.28,177.17) T14(295.28,216.54) T15(295.28,255.91) T16(295.28,295.28)
Top Overlay:
  drawing of 276 lines, arcs and shapes, not listed
  text ".Designator" at -413,-72 h36
  text "T" at 290,-380 h36
  text "R" at 250,-380 h36
  text "P" at 210,-380 h36
  text "N" at 170,-380 h36
  text "M" at 130,-380 h36
  text "L" at 90,-380 h36
  text "K" at 50,-380 h36
  text "J" at 10,-380 h36
  text "H" at -30,-380 h36
  text "G" at -70,-380 h36
  text "F" at -110,-380 h36
  text "E" at -150,-380 h36
  text "D" at -190,-380 h36
  text "C" at -230,-380 h36
  text "B" at -270,-380 h36
  text "A" at -310,-380 h36
  text "15" at -390,250 h36
  text "13" at -390,170 h36
  text "11" at -390,90 h36
  text "9" at -380,10 h36
  text "7" at -380,-70 h36
  text "5" at -380,-150 h36
  text "3" at -380,-230 h36
  text "1" at -380,-310 h36
Mechanical 1:
  lines w1: -395,-335 -335,-335 335,-335 380,-335 400,-315 400,-25 390,-15 335,-15 335,335 0,335 0,380 -15,395 -335,395 -395,395 -395,-335
Mechanical 15:
  text "L5" at 98.43,-153.8 h20
  text "L6" at 98.43,-114.43 h20
  text "G12" at -59.06,113.8 h20
  text "G11" at -59.06,74.43 h20
  text "F12" at -98.43,113.8 h20
  text "F10" at -98.43,35.06 h20
  text "F11" at -98.43,74.43 h20
  text "F9" at -98.43,3.69 h20
  text "E9" at -137.8,3.69 h20
  text "F7" at -98.43,-75.06 h20
  text "E6" at -137.8,-114.43 h20
  text "D12" at -177.17,113.8 h20
  text "D11" at -177.17,74.43 h20
  text "D6" at -177.17,-114.43 h20
  text "C12" at -216.54,113.8 h20
  text "C11" at -216.54,74.43 h20
  text "A12" at -295.28,113.8 h20
  text "C1" at -216.54,-311.28 h20
  text "C2" at -216.54,-271.91 h20
  text "D3" at -177.17,-232.54 h20
  text "D4" at -177.17,-193.17 h20
  text "E1" at -137.8,-311.28 h20
  text "D1" at -177.17,-311.28 h20
  text "E2" at -137.8,-271.91 h20
  text "E3" at -137.8,-232.54 h20
  text "G4" at -59.06,-193.17 h20
  text "F3" at -98.43,-232.54 h20
  text "G1" at -59.06,-311.28 h20
  text "F1" at -98.43,-311.28 h20
  text "H4" at -19.69,-193.17 h20
  text "G3" at -59.06,-232.54 h20
  text "H5" at -19.69,-153.8 h20
  text "H6" at -19.69,-114.43 h20
  text "P6" at 216.54,-114.43 h20
  text "N8" at 177.17,-35.69 h20
  text "P7" at 216.54,-75.06 h20
  text "R7" at 255.91,-75.06 h20
  text "P8" at 216.54,-35.69 h20
  text "P9" at 216.54,3.69 h20
  text "D16" at -177.17,271.28 h20
  text "P11" at 216.54,74.43 h20
  text "P12" at 216.54,113.8 h20
  text "R13" at 255.91,153.17 h20
  text "T13" at 295.28,153.17 h20
  text "A8" at -295.28,-35.69 h20
  text "D9" at -177.17,3.69 h20
  text "C10" at -216.54,35.06 h20
  text "A9" at -295.28,3.69 h20
  text "C9" at -216.54,3.69 h20
  text "H1" at -19.69,-311.28 h20
  text "G2" at -59.06,-271.91 h20
  text "J3" at 19.69,-232.54 h20
  text "H3" at -19.69,-232.54 h20
  text "J1" at 19.69,-311.28 h20
  text "J2" at 19.69,-271.91 h20
  text "K1" at 59.06,-311.28 h20
  text "K3" at 59.06,-232.54 h20
  text "L2" at 98.43,-271.91 h20
  text "L1" at 98.43,-311.28 h20
  text "J6" at 19.69,-114.43 h20
  text "J4" at 19.69,-193.17 h20
  text "L3" at 98.43,-232.54 h20
  text "K4" at 59.06,-193.17 h20
  text "L4" at 98.43,-193.17 h20
  text "M3" at 137.8,-232.54 h20
  text "B8" at -255.91,-35.69 h20
  text "B10" at -255.91,35.06 h20
  text "C8" at -216.54,-35.69 h20
  text "D8" at -177.17,-35.69 h20
  text "A10" at -295.28,35.06 h20
  text "E7" at -137.8,-75.06 h20
  text "F8" at -98.43,-35.69 h20
  text "C13" at -216.54,153.17 h20
  text "B6" at -255.91,-114.43 h20
  text "B12" at -255.91,113.8 h20
  text "A11" at -295.28,74.43 h20
  text "C7" at -216.54,-75.06 h20
  text "P2" at 216.54,-271.91 h20
  text "C6" at -216.54,-114.43 h20
  text "D7" at -177.17,-75.06 h20
  text "B4" at -255.91,-193.17 h20
  text "A4" at -295.28,-193.17 h20
  text "C5" at -216.54,-153.8 h20
  text "A5" at -295.28,-153.8 h20
  text "B3" at -255.91,-232.54 h20
  text "A3" at -295.28,-232.54 h20
  text "T15" at 295.28,231.91 h20
  text "T12" at 295.28,113.8 h20
  text "P4" at 216.54,-193.17 h20
  text "N4" at 177.17,-193.17 h20
  text "R2" at 255.91,-271.91 h20
  text "A2" at -295.28,-271.91 h20
  text "D5" at -177.17,-153.8 h20
  text "P13" at 216.54,153.17 h20
  text "N12" at 177.17,113.8 h20
  text "T14" at 295.28,192.54 h20
  text "E14" at -137.8,192.54 h20
  text "C14" at -216.54,192.54 h20
  text "B11" at -255.91,74.43 h20
  text "A16" at -295.28,271.28 h20
  text "C3" at -216.54,-232.54 h20
  text "B7" at -255.91,-75.06 h20
  text "A1" at -295.28,-311.28 h20
  text "L15" at 98.43,231.91 h20
  text "G15" at -59.06,231.91 h20
  text "E12" at -137.8,113.8 h20
  text "E5" at -137.8,-153.8 h20
  text "J8" at 19.69,-35.69 h20
  text "G8" at -59.06,-35.69 h20
  text "M5" at 137.8,-153.8 h20
  text "K9" at 59.06,3.69 h20
  text "K7" at 59.06,-75.06 h20
  text "G10" at -59.06,35.06 h20
  text "H9" at -19.69,3.69 h20
  text "F6" at -98.43,-114.43 h20
  text "K2" at 59.06,-271.91 h20
  text "F2" at -98.43,-271.91 h20
  text "T16" at 295.28,271.28 h20
  text "R10" at 255.91,35.06 h20
  text "P14" at 216.54,192.54 h20
  text "L11" at 98.43,74.43 h20
  text "M12" at 137.8,113.8 h20
  text "R6" at 255.91,-114.43 h20
  text "P3" at 216.54,-232.54 h20
  text "T1" at 295.28,-311.28 h20
  text "T9" at 295.28,3.69 h20
  text "N16" at 177.17,271.28 h20
  text "B13" at -255.91,153.17 h20
  text "B5" at -255.91,-153.8 h20
  text "B9" at -255.91,3.69 h20
  text "E8" at -137.8,-35.69 h20
  text "H12" at -19.69,113.8 h20
  text "J15" at 19.69,231.91 h20
  text "E15" at -137.8,231.91 h20
  text "N15" at 177.17,231.91 h20
  text "J5" at 19.69,-153.8 h20
  text "D2" at -177.17,-271.91 h20
  text "H2" at -19.69,-271.91 h20
  text "M2" at 137.8,-271.91 h20
  text "R12" at 255.91,113.8 h20
  text "R4" at 255.91,-193.17 h20
  text "R8" at 255.91,-35.69 h20
  text "M9" at 137.8,3.69 h20
  text "P15" at 216.54,231.91 h20
  text "R15" at 255.91,231.91 h20
  text "R16" at 255.91,271.28 h20
  text "D10" at -177.17,35.06 h20
  text "A6" at -295.28,-114.43 h20
  text "B15" at -255.91,231.91 h20
  text "H15" at -19.69,231.91 h20
  text "T6" at 295.28,-114.43 h20
  text "T5" at 295.28,-153.8 h20
  text "H13" at -19.69,153.17 h20
  text "G16" at -59.06,271.28 h20
  text "F15" at -98.43,231.91 h20
  text "G14" at -59.06,192.54 h20
  text "T7" at 295.28,-75.06 h20
  text "N9" at 177.17,3.69 h20
  text "G13" at -59.06,153.17 h20
  text "C15" at -216.54,231.91 h20
  text "C16" at -216.54,271.28 h20
  text "J11" at 19.69,74.43 h20
  text "J10" at 19.69,35.06 h20
  text "H11" at -19.69,74.43 h20
  text "H10" at -19.69,35.06 h20
  text "D13" at -177.17,153.17 h20
  text "J14" at 19.69,192.54 h20
  text "F16" at -98.43,271.28 h20
  text "G9" at -59.06,3.69 h20
  text "H8" at -19.69,-35.69 h20
  text "G7" at -59.06,-75.06 h20
  text "J9" at 19.69,3.69 h20
  text "K10" at 59.06,35.06 h20
  text "K8" at 59.06,-35.69 h20
  text "M6" at 137.8,-114.43 h20
  text "L12" at 98.43,113.8 h20
  text "F5" at -98.43,-153.8 h20
  text "E11" at -137.8,74.43 h20
  text "M13" at 137.8,153.17 h20
  text "D15" at -177.17,231.91 h20
  text "C4" at -216.54,-193.17 h20
  text "E4" at -137.8,-193.17 h20
  text "F4" at -98.43,-193.17 h20
  text "G6" at -59.06,-114.43 h20
  text "G5" at -59.06,-153.8 h20
  text "H7" at -19.69,-75.06 h20
  text "J7" at 19.69,-75.06 h20
  text "K6" at 59.06,-114.43 h20
  text "K5" at 59.06,-153.8 h20
  text "L9" at 98.43,3.69 h20
  text "L8" at 98.43,-35.69 h20
  text "L10" at 98.43,35.06 h20
  text "M4" at 137.8,-193.17 h20
  text "M7" at 137.8,-75.06 h20
  text "M8" at 137.8,-35.69 h20
  text "M11" at 137.8,74.43 h20
  text "N1" at 177.17,-311.28 h20
  text "N3" at 177.17,-232.54 h20
  text "N2" at 177.17,-271.91 h20
  text "N5" at 177.17,-153.8 h20
  text "R1" at 255.91,-311.28 h20
  text "R9" at 255.91,3.69 h20
  text "M10" at 137.8,35.06 h20
  text "N10" at 177.17,35.06 h20
  text "P10" at 216.54,35.06 h20
  text "P16" at 216.54,271.28 h20
  text "T10" at 295.28,35.06 h20
  text "R11" at 255.91,74.43 h20
  text "E10" at -137.8,35.06 h20
  text "T11" at 295.28,74.43 h20
  text "N11" at 177.17,74.43 h20
  text "B2" at -255.91,-271.91 h20
  text "A7" at -295.28,-75.06 h20
  text "L13" at 98.43,153.17 h20
  text "M15" at 137.8,231.91 h20
  text "K13" at 59.06,153.17 h20
  text "M16" at 137.8,271.28 h20
  text "R14" at 255.91,192.54 h20
  text "N7" at 177.17,-75.06 h20
  text "T8" at 295.28,-35.69 h20
  text "D14" at -177.17,192.54 h20
  text "B14" at -255.91,192.54 h20
  text "M1" at 137.8,-311.28 h20
  text "T4" at 295.28,-193.17 h20
  text "R5" at 255.91,-153.8 h20
  text "K16" at 59.06,271.28 h20
  text "E16" at -137.8,271.28 h20
  text "N14" at 177.17,192.54 h20
  text "N13" at 177.17,153.17 h20
  text "F14" at -98.43,192.54 h20
  text "P1" at 216.54,-311.28 h20
  text "A13" at -295.28,153.17 h20
  text "A14" at -295.28,192.54 h20
  text "L16" at 98.43,271.28 h20
  text "T3" at 295.28,-232.54 h20
  text "P5" at 216.54,-153.8 h20
  text "N6" at 177.17,-114.43 h20
  text "R3" at 255.91,-232.54 h20
  text "B16" at -255.91,271.28 h20
  text "B1" at -255.91,-311.28 h20
  text "F13" at -98.43,153.17 h20
  text "E13" at -137.8,153.17 h20
  text "J13" at 19.69,153.17 h20
  text "A15" at -295.28,231.91 h20
  text "T2" at 295.28,-271.91 h20
  text "L7" at 98.43,-75.06 h20
  text "H14" at -19.69,192.54 h20
  text "H16" at -19.69,271.28 h20
  text "L14" at 98.43,192.54 h20
  text "J12" at 19.69,113.8 h20
  text "K14" at 59.06,192.54 h20
  text "J16" at 19.69,271.28 h20
  text "K15" at 59.06,231.91 h20
  text "M14" at 137.8,192.54 h20
  text "K11" at 59.06,74.43 h20
  text "K12" at 59.06,113.8 h20
Mechanical 16:
  region: -393.7,-393.7 393.7,-393.7 393.7,393.7 -393.7,393.7
  pour cut-out: -393.7,393.7 393.7,393.7 393.7,-393.7 -393.7,-393.7
  lines w1: -895.5,-85 -914.5,-85 -914.5,-35 -895.5,-35 ; -830,-334.65 -434.65,-334.65 ; -830,334.65 -434.65,334.65 ; -730,-122.5 -730,-334.65 ; -730,102.5 -730,334.65 ; -564.5,-85 -545.5,-85 -545.5,-35 -564.5,-35 ; -490,-610 -509,-610 -509,-560 -490,-560 ; -210,-610 -191,-610 -191,-560 -210,-560 ; -153.5,-535 -19.69,-535 ; -19.69,-635 -19.69,-395.28 ; 19.69,-635 19.69,-395.28 ; 319.69,-535 19.69,-535 ; -730,-334.65 -705,-184.65 -755,-184.65 -730,-334.65 ; -730,334.65 -755,184.65 -705,184.65 -730,334.65 ; -19.69,-535 -169.69,-510 -169.69,-560 -19.69,-535 ; 19.69,-535 169.69,-560 169.69,-510 19.69,-535
Mechanical 17:
  text "669.29" at -876.5,-85 h36
  text "17" at -774.5,15 h36
  text "39.37" at -471,-610 h36
  text "1" at -369,-510 h36
3D body: height 150, standoff 0, extent -393.7,-393.7 393.7,393.7